# EAGLE library part INA260 (library FlashPCB_Sensors)
INA260 - IC MONITOR PWR/CURR Technical Specifications: Current Monitor Regulator High/Low-Side 10mA Sensing Method: High/Low-Side Accuracy: +/- 0.02% Voltage - Input: 0V ~ 36V Current - Output: 10mA Component Search: INA260 <https://www.ti.com/lit/ds/symlink/ina260.pdf?HQS=dis-dk-null-digikeymode-dsf-pf-null-wwe&ts=1666628404827&ref_url=https%253A%252F%252Fwww.ti.com%252Fgeneral%252Fdocs%252Fsuppproductinfo.tsp%253FdistId%253D10%2526gotoUrl%253Dhttps%253A%252F%252Fwww.ti.com%252Flit%252Fgpn%252Fina260> Datasheet: INA260 Precision Digital Current and Power Monitor With Low-Drift, Precision Integrated Shunt datasheet (Rev. C) <https://www.ti.com/lit/ds/symlink/ina260.pdf?HQS=dis-dk-null-digikeymode-dsf-pf-null-wwe&ts=1666628404827&ref_url=https%253A%252F%252Fwww.ti.com%252Fgeneral%252Fdocs%252Fsuppproductinfo.tsp%253FdistId%253D10%2526gotoUrl%253Dhttps%253A%252F%252Fwww.ti.com%252Flit%252Fgpn%252Fina260>
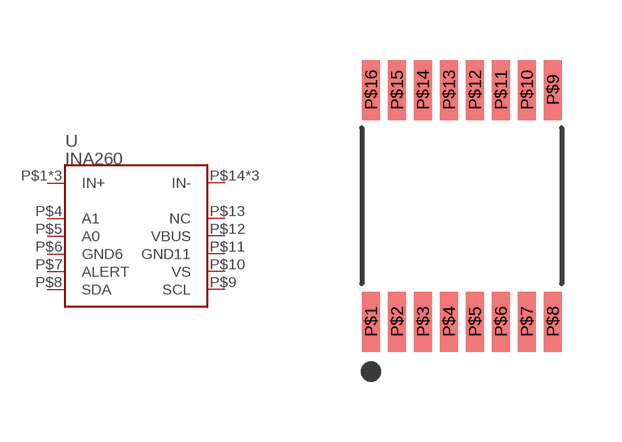
[diagram p12: symbol with the pads of 16-TSSOP; footprint 16-TSSOP]

Designator prefix U

## INA260  [16-TSSOP]
P$1  IN+
P$2  IN+
P$3  IN+
P$4  A1
P$5  A0
P$6  GND6
P$7  ALERT
P$8  SDA
P$9  SCL
P$10  VS
P$11  GND11
P$12  VBUS
P$13  NC
P$14  IN-
P$15  IN-
P$16  IN-

## Footprint 16-TSSOP (pad centres in mm)
smd 0.45 x 1.5: P$1 -2.275,-2.9; P$2 -1.625,-2.9; P$3 -0.975,-2.9; P$4 -0.325,-2.9; P$5 0.325,-2.9; P$6 0.975,-2.9; P$7 1.625,-2.9; P$8 2.275,-2.9; P$9 2.275,2.9; P$10 1.625,2.9; P$11 0.975,2.9; P$12 0.325,2.9; P$13 -0.325,2.9; P$14 -0.975,2.9; P$15 -1.625,2.9; P$16 -2.275,2.9